# EAGLE library part MICRO-SD (library Harrington-Connectors v41)
Micro-SD Connector GCT - CD = GND when not inserted
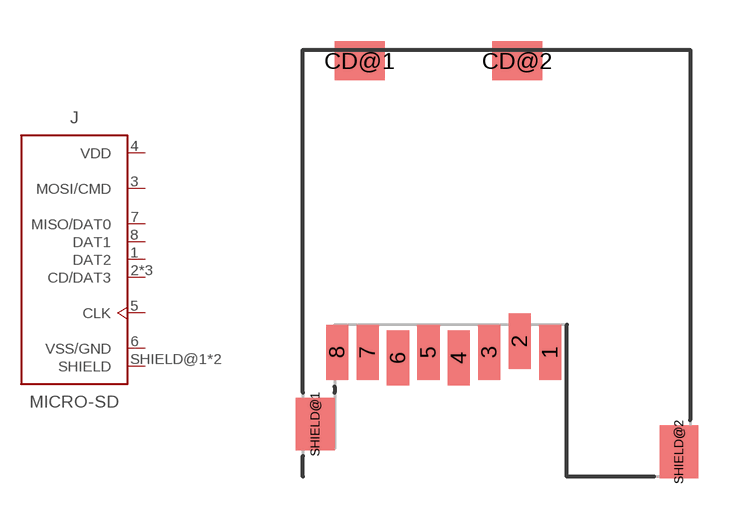
[diagram p1: symbol with the pads of MEM2061; footprint MEM2061]

Designator prefix J

## MICRO-SD  [MEM2061]
1  DAT2
2  CD/DAT3
3  MOSI/CMD  in
4  VDD  pwr
5  CLK  in
6  VSS/GND  pwr
7  MISO/DAT0
8  DAT1
CD@1  CD/DAT3
CD@2  CD/DAT3
SHIELD@1  SHIELD  pwr
SHIELD@2  SHIELD  pwr

## Footprint MEM2061 (pad centres in mm)
smd 0.8 x 2: 1 1.94,-3.225; 2 0.84,-2.825; 3 -0.26,-3.225; 4 -1.36,-3.425; 5 -2.46,-3.225; 6 -3.56,-3.425; 7 -4.66,-3.225; 8 -5.76,-3.225
smd 1.8 x 1.4: CD@1 -4.95,7.325; CD@2 0.75,7.325
smd 1.4 x 1.9: SHIELD@1 -6.55,-5.825; SHIELD@2 6.6,-6.825